# Altium schematic symbol library 接插件.SchLib: 71 symbols
Pins are listed as number, name and electrical type; pins without a type are passive.

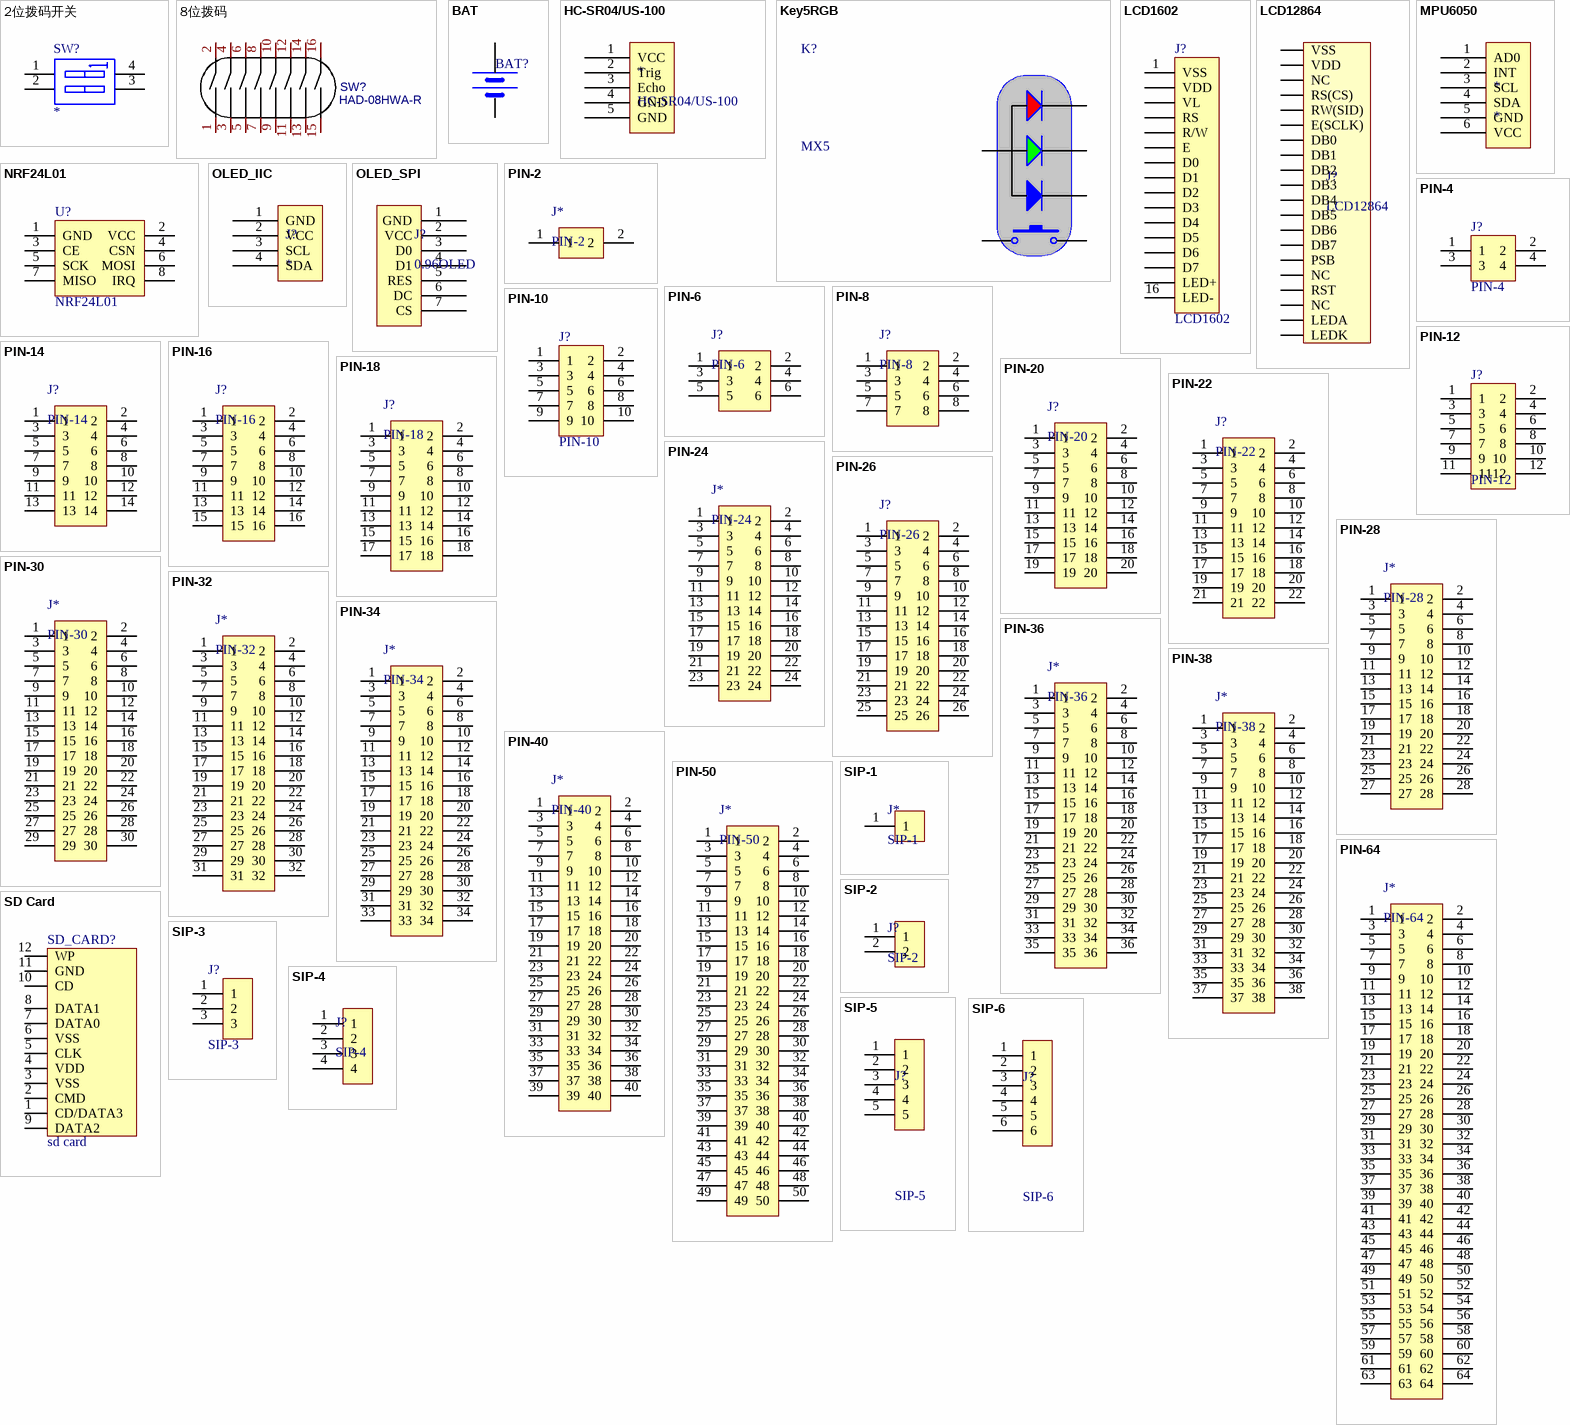
[diagram p0: symbols 2位拨码开关 to SIP-6]

## 2位拨码开关
designator SW?
DIP Switch
pins: 1 A1, 2 A2, 3 B2, 4 B1

## 8位拨码
designator SW?, comment HAD-08HWA-R
BOM_Manufacturer: ReliaPro; BOM_Supplier: LCSC; BOM_Manufacturer Part: HAD-08HWA-R; image: //image.lceda.cn/szlcsc/C4682.jpg; BOM_Supplier Part: C4682; spicePre: D; spiceSymbolName: HAD-08HWA-R
footprint 拨码MCEMR-08-T (DIP SWITCH)
pins: 1, 2 16, 3 2, 4 15, 5 3, 6 14, 7 4, 8 13, 9 5, 10 12, 11 6, 12 11, 13 7, 14 10, 15 8, 16 9

## BAT
designator BAT?, comment BATT  (value not drawn)
footprint BATM CR1220
pins: 1 VCC, 2 GND

## HC-SR04/US-100
designator *
超声波测距模块
footprint 2.54排针1X5
pins: 1 VCC, 2 Trig, 3 Echo, 4 GND, 5 GND

## Key5RGB
designator K?, comment MX5
footprint Key5RGB
pins: 0 A, 1 K, 2 K, 3 K, 4 1, 5 2

## LCD1602
designator J?
Header, 16-Pin; LatestRevisionDate: 17-Jul-2002; LatestRevisionNote: Re-released for DXP Platform.; Publisher: Altium Limited
footprint LCD1602
pins: 1 VSS, 2 VDD, 3 VL, 4 RS, 5 R/W, 6 E, 7 D0, 8 D1, 9 D2, 10 D3, 11 D4, 12 D5, 13 D6, 14 D7, 15 LED+, 16 LED-

## LCD12864
designator J?
液晶显示模块
footprint LCD12864 (2.54mm)
pins: 1 VSS, 2 VDD, 3 NC, 4 RS(CS), 5 RW(SID), 6 E(SCLK), 7 DB0, 8 DB1, 9 DB2, 10 DB3, 11 DB4, 12 DB5, 13 DB6, 14 DB7, 15 PSB, 16 NC, 17 RST, 18 NC, 19 LEDA, 20 LEDK

## MPU6050
designator *
footprint 2.54排针1X6
pins: 1 AD0, 2 INT, 3 SCL, 4 SDA, 5 GND, 6 VCC

## NRF24L01
designator U?
NRF24L01模块排母
footprint 2.54排针2X4
pins: 1 GND, 2 VCC, 3 CE, 4 CSN, 5 SCK, 6 MOSI, 7 MISO, 8 IRQ

## OLED_IIC
designator J?
footprint OLED 0.96 - IIC
footprint OLED 0.96 - IIC_无定位孔
pins: 1 GND, 2 VCC, 3 SCL, 4 SDA

## OLED_SPI
designator J?, comment 0.96OLED
footprint OLED 0.96-SPI _无定位孔
pins: 1 GND, 2 VCC, 3 D0, 4 D1, 5 RES, 6 DC, 7 CS

## PIN-2
designator J*
footprint 2.54弯排针2X1
footprint 4.2接插件2P
footprint 2.54排针1X2
pins: 1, 2

## PIN-4
designator J?
footprint 2.54母排座双排4P
footprint 4.2接插件4P
footprint 2.54排针2X2
footprint 2.54弯排针2X2
pins: 1, 2, 3, 4

## PIN-6
designator J?
footprint 2.54简易牛角座6P
footprint 2.54母排座双排6P
footprint 2.54排针2X3
footprint 2.54弯排针2X3
footprint 4.2接插件6P
footprint 2.54简易牛角座6P
pins: 1, 2, 3, 4, 5, 6

## PIN-8
designator J?
footprint 2.54简易牛角座8P
footprint 2.54简易牛角座弯针8P
footprint 2.54母排座双排8P
footprint 2.54排针2X4
footprint 2.54弯排针2X4
footprint 4.2接插件8P
pins: 1, 2, 3, 4, 5, 6, 7, 8

## PIN-10
designator J?
footprint 2.54简易牛角座10P
footprint 2.54简易牛角座弯针10P
footprint 2.54母排座双排10P
footprint 2.54弯排针2X5
footprint 4.2接插件10P
footprint 2.54排针2X5
pins: 1, 2, 3, 4, 5, 6, 7, 8, 9, 10

## PIN-12
designator J?
footprint 2.54简易牛角座弯针12P
footprint 2.54母排座双排12P
footprint 2.54排针2X6
footprint 2.54弯排针2X6
footprint 4.2接插件12P
pins: 1, 2, 3, 4, 5, 6, 7, 8, 9, 10, 11, 12

## PIN-14
designator J?
footprint 2.54简易牛角座14P
footprint 2.54简易牛角座弯针14P
footprint 4.2接插件14P
footprint 2.54母排座双排14P
footprint 2.54排针2X8
footprint 2.54弯排针2X8
pins: 1, 2, 3, 4, 5, 6, 7, 8, 9, 10, 11, 12, 13, 14

## PIN-16
designator J?
footprint 2.54排针2X8
footprint 2.54弯排针2X8
footprint 2.54简易牛角座16p
footprint 2.54简易牛角座弯针16P
footprint 2.54母排座双排16P
footprint 4.2接插件16P
pins: 1, 2, 3, 4, 5, 6, 7, 8, 9, 10, 11, 12, 13, 14, 15, 16

## PIN-18
designator J?
footprint 2.54排针2X9
footprint 2.54弯排针2X9
footprint 2.54母排座双排18P
footprint 4.2接插件18P
pins: 1, 2, 3, 4, 5, 6, 7, 8, 9, 10, 11, 12, 13, 14, 15, 16, 17, 18

## PIN-20
designator J?
footprint 2.54排针2X10
footprint 2.54弯排针2X10
footprint 2.54简易牛角座20p
footprint 2.54简易牛角座弯针20P
footprint 2.54母排座双排20P
footprint 4.2接插件20P
pins: 1, 2, 3, 4, 5, 6, 7, 8, 9, 10, 11, 12, 13, 14, 15, 16, 17, 18, 19, 20

## PIN-22
designator J?
footprint 2.54排针2X11
footprint 2.54弯排针2X11
footprint 2.54母排座双排22P
pins: 1, 2, 3, 4, 5, 6, 7, 8, 9, 10, 11, 12, 13, 14, 15, 16, 17, 18, 19, 20, 21, 22

## PIN-24
designator J*
footprint 2.54排针2X12
footprint 2.54弯排针2X12
footprint 2.54简易牛角座24p
footprint 2.54简易牛角座弯针24P
footprint 2.54母排座双排24P
pins: 1, 2, 3, 4, 5, 6, 7, 8, 9, 10, 11, 12, 13, 14, 15, 16, 17, 18, 19, 20, 21, 22, 23, 24

## PIN-26
designator J?
footprint 2.54简易牛角座26p
footprint 2.54简易牛角座弯针26P
footprint 2.54母排座双排26P
footprint 2.54排针2X13
footprint 2.54弯排针2X13
pins: 1, 2, 3, 4, 5, 6, 7, 8, 9, 10, 11, 12, 13, 14, 15, 16, 17, 18, 19, 20, 21, 22, 23, 24, 25, 26

## PIN-28
designator J*
footprint 2.54排针2X14
footprint 2.54弯排针2X14
footprint 2.54母排座双排28P
pins: 1, 2, 3, 4, 5, 6, 7, 8, 9, 10, 11, 12, 13, 14, 15, 16, 17, 18, 19, 20, 21, 22, 23, 24, 25, 26, 27, 28

## PIN-30
designator J*
footprint 2.54弯排针2X15
footprint 2.54简易牛角座30p
footprint 2.54简易牛角座弯针30P
footprint 2.54母排座双排30P
pins: 1, 2, 3, 4, 5, 6, 7, 8, 9, 10, 11, 12, 13, 14, 15, 16, 17, 18, 19, 20, 21, 22, 23, 24, 25, 26, 27, 28, 29, 30

## PIN-32
designator J*
pins: 1, 2, 3, 4, 5, 6, 7, 8, 9, 10, 11, 12, 13, 14, 15, 16, 17, 18, 19, 20, 21, 22, 23, 24, 25, 26, 27, 28, 29, 30, 31, 32

## PIN-34
designator J*
footprint 2.54弯排针2X17
footprint 2.54简易牛角座34p
footprint 2.54简易牛角座弯针34P
footprint 2.54母排座双排34P
pins: 1, 2, 3, 4, 5, 6, 7, 8, 9, 10, 11, 12, 13, 14, 15, 16, 17, 18, 19, 20, 21, 22, 23, 24, 25, 26, 27, 28, 29, 30, 31, 32, 33, 34

## PIN-36
designator J*
footprint 2.54母排座双排36P
footprint 2.54弯排针2X18
pins: 1, 2, 3, 4, 5, 6, 7, 8, 9, 10, 11, 12, 13, 14, 15, 16, 17, 18, 19, 20, 21, 22, 23, 24, 25, 26, 27, 28, 29, 30, 31, 32, 33, 34, 35, 36

## PIN-38
designator J*
footprint 2.54弯排针2X19
footprint 2.54母排座双排38P
pins: 1, 2, 3, 4, 5, 6, 7, 8, 9, 10, 11, 12, 13, 14, 15, 16, 17, 18, 19, 20, 21, 22, 23, 24, 25, 26, 27, 28, 29, 30, 31, 32, 33, 34, 35, 36, 37, 38

## PIN-40
designator J*
footprint 2.54排针2X20
footprint 2.54弯排针2X20
footprint 2.54简易牛角座40p
footprint 2.54简易牛角座弯针40P
footprint 2.54母排座双排40P
pins: 1, 2, 3, 4, 5, 6, 7, 8, 9, 10, 11, 12, 13, 14, 15, 16, 17, 18, 19, 20, 21, 22, 23, 24, 25, 26, 27, 28, 29, 30, 31, 32, 33, 34, 35, 36, 37, 38, 39, 40

## PIN-50
designator J*
footprint 2.54简易牛角座50p
pins: 1, 2, 3, 4, 5, 6, 7, 8, 9, 10, 11, 12, 13, 14, 15, 16, 17, 18, 19, 20, 21, 22, 23, 24, 25, 26, 27, 28, 29, 30, 31, 32, 33, 34, 35, 36, 37, 38, 39, 40, 41, 42, 43, 44, 45, 46, 47, 48, 49, 50

## PIN-64
designator J*
footprint 2.54母排座双排64P
pins: 1, 2, 3, 4, 5, 6, 7, 8, 9, 10, 11, 12, 13, 14, 15, 16, 17, 18, 19, 20, 21, 22, 23, 24, 25, 26, 27, 28, 29, 30, 31, 32, 33, 34, 35, 36, 37, 38, 39, 40, 41, 42, 43, 44, 45, 46, 47, 48, 49, 50, 51, 52, 53, 54, 55, 56, 57, 58, 59, 60, 61, 62, 63, 64

## SD Card
designator SD_CARD?, comment sd card
SD卡
footprint SDCARD_S (SDCARD_SMALL)
footprint SDCARD_L
pins: 1 CD/DATA3, 2 CMD, 3 VSS, 4 VDD, 5 CLK, 6 VSS, 7 DATA0, 8 DATA1, 9 DATA2, 10 CD, 11 GND, 12 WP

## SIP-1
designator J*
footprint 2.54弯排针1X1
footprint 2.54排针1X1
footprint 2.54弯排针1X1-A
pins: 1

## SIP-2
designator J?
footprint 2.54接插件2P
footprint 2.54排针1X2
footprint 5.08接线端子2位
footprint 5.08接线端子2P
footprint 5.08接插件2P
footprint 2.54对插件2P
footprint 2.54弯排针1X2-A
footprint 2.54XH接插件2P
pins: 1, 2

## SIP-3
designator J?
footprint 5.08接线端子3位
footprint 5.08接线端子3P
footprint 2.54接插件3P
footprint 2.54接插件3P
footprint 2.54排针1X3
footprint 2.54弯排针1X3-A
footprint 2.54弯排针1X3
footprint 2.54对插件3P
footprint 2.54XH接插件3P
footprint XH2.54-3SMD (CONN-SMD_3P-P2.54_XH2.54-3AB)
pins: 1, 2, 3

## SIP-4
designator J?
footprint 5.08接线端子4P
footprint 5.08接插件4P
footprint 2.54接插件4P
footprint 2.54排针1X4
footprint 2.54弯排针1X4-A
footprint 2.54弯排针1X4
footprint 2.54对插件4P
footprint 2.54XH接插件4P
footprint XH2.54-4AB
footprint XH2.54-4AB
pins: 1, 2, 3, 4

## SIP-5
designator J?
footprint 5.08接线端子5位
footprint 5.08接插件5P
footprint 2.54接插件5P
footprint 2.54排针1X5
footprint 2.54弯排针1X5-A
footprint 2.54弯排针1X5
footprint 2.54对插件5P
footprint 2.54XH接插件5P
pins: 1, 2, 3, 4, 5

## SIP-6
designator J?
footprint 5.08接线端子6位
footprint 5.08接插件6P
footprint 2.54接插件6P
footprint 2.54排针1X6
footprint 2.54弯排针1X6-A
footprint 2.54弯排针1X6
footprint 2.54对插件6P
footprint 2.54XH接插件6P
pins: 1, 2, 3, 4, 5, 6

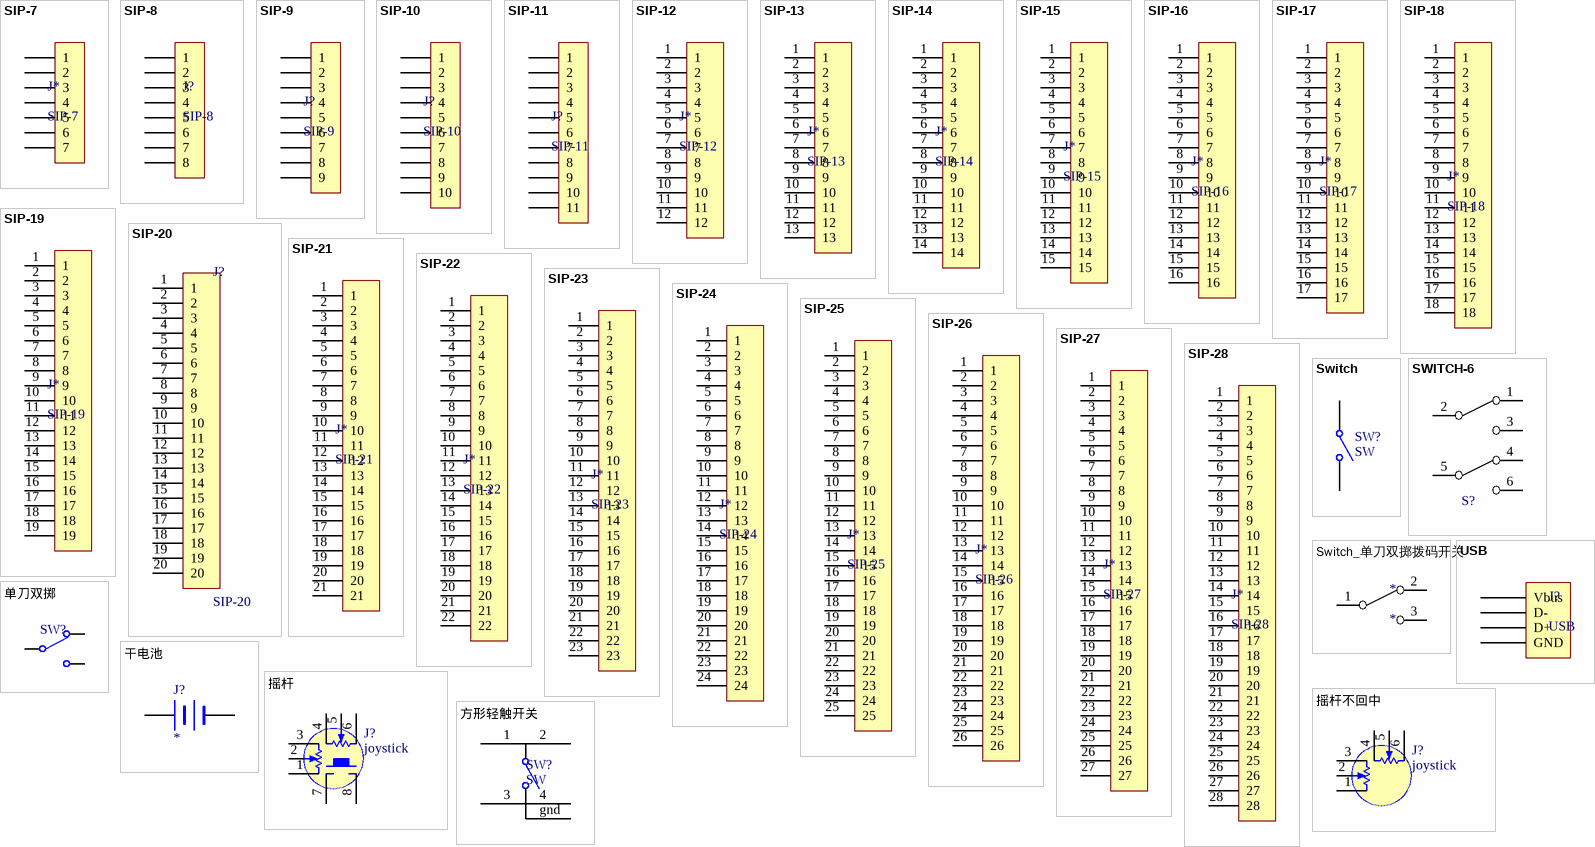
[diagram p1: symbols SIP-7 to 方形轻触开关]

## SIP-7
designator J*
footprint 5.08接线端子7位
footprint 2.54接插件7P
footprint 2.54排针1X7
footprint 2.54弯排针1X7-A
footprint 2.54弯排针1X7
footprint 2.54XH接插件7P
pins: 1, 2, 3, 4, 5, 6, 7

## SIP-8
designator J?
footprint 5.08接线端子8位
footprint 5.08接插件8P
footprint 2.54接插件8P
footprint 2.54排针1X8
footprint 2.54弯排针1X8-A
footprint 2.54弯排针1X8
footprint 2.54对插件8P
footprint 2.54XH接插件8P
pins: 1, 2, 3, 4, 5, 6, 7, 8

## SIP-9
designator J?
footprint 2.54XH接插件9P
footprint 2.54弯排针1X9
footprint 2.54弯排针1X9-A
footprint 2.54排针1X9
footprint 5.08接线端子9位
footprint 2.54XH接插件9P-A (接插件/1A)
pins: 1, 2, 3, 4, 5, 6, 7, 8, 9

## SIP-10
designator J?
footprint SIP10-0.2
footprint 2.54XH接插件10P
footprint 2.54弯排针1X10
footprint 2.54弯排针1X10-A
footprint 2.54排针1X10
footprint 5.08接插件10P
footprint 5.08接线端子10位
pins: 1, 2, 3, 4, 5, 6, 7, 8, 9, 10

## SIP-11
designator J?
footprint 2.54XH接插件11P
footprint 2.54弯排针1X11
footprint 2.54弯排针1X11-A
footprint 2.54排针1X11
pins: 1, 2, 3, 4, 5, 6, 7, 8, 9, 10, 11

## SIP-12
designator J*
footprint 2.54XH接插件12P
footprint 2.54弯排针1X12
footprint 2.54弯排针1X12-A
footprint 2.54排针1X12
pins: 1, 2, 3, 4, 5, 6, 7, 8, 9, 10, 11, 12

## SIP-13
designator J*
footprint 2.54XH接插件13P
footprint 2.54弯排针1X13
footprint 2.54弯排针1X13-A
footprint 2.54排针1X13
pins: 1, 2, 3, 4, 5, 6, 7, 8, 9, 10, 11, 12, 13

## SIP-14
designator J*
footprint 2.54XH接插件14P
footprint 2.54弯排针1X14
footprint 2.54弯排针1X14-A
footprint 2.54排针1X14
pins: 1, 2, 3, 4, 5, 6, 7, 8, 9, 10, 11, 12, 13, 14

## SIP-15
designator J*
footprint 2.54XH接插件15P
footprint 2.54弯排针1X15
footprint 2.54弯排针1X15-A
footprint 2.54排针1X15
pins: 1, 2, 3, 4, 5, 6, 7, 8, 9, 10, 11, 12, 13, 14, 15

## SIP-16
designator J*
footprint 2.54XH接插件16P
footprint 2.54弯排针1X16
footprint 2.54弯排针1X16-A
footprint 2.54排针1X16
pins: 1, 2, 3, 4, 5, 6, 7, 8, 9, 10, 11, 12, 13, 14, 15, 16

## SIP-17
designator J*
footprint 2.54XH接插件17P
footprint 2.54弯排针1X17
footprint 2.54弯排针1X17-A
footprint 2.54排针1X17
pins: 1, 2, 3, 4, 5, 6, 7, 8, 9, 10, 11, 12, 13, 14, 15, 16, 17

## SIP-18
designator J*
footprint 2.54XH接插件18P
footprint 2.54弯排针1X18
footprint 2.54弯排针1X18-A
footprint 2.54排针1X18
pins: 1, 2, 3, 4, 5, 6, 7, 8, 9, 10, 11, 12, 13, 14, 15, 16, 17, 18

## SIP-19
designator J*
footprint 2.54XH接插件19P
footprint 2.54弯排针1X19
footprint 2.54弯排针1X19-A
footprint 2.54排针1X19
pins: 1, 2, 3, 4, 5, 6, 7, 8, 9, 10, 11, 12, 13, 14, 15, 16, 17, 18, 19

## SIP-20
designator J?
footprint 2.54XH接插件20P
footprint 2.54弯排针1X20
footprint 2.54弯排针1X20-A
footprint 2.54排针1X20
pins: 1, 2, 3, 4, 5, 6, 7, 8, 9, 10, 11, 12, 13, 14, 15, 16, 17, 18, 19, 20

## SIP-21
designator J*
footprint 2.54弯排针1X21
footprint 2.54弯排针1X21-A
pins: 1, 2, 3, 4, 5, 6, 7, 8, 9, 10, 11, 12, 13, 14, 15, 16, 17, 18, 19, 20, 21

## SIP-22
designator J*
footprint 2.54弯排针1X22
footprint 2.54弯排针1X22-A
pins: 1, 2, 3, 4, 5, 6, 7, 8, 9, 10, 11, 12, 13, 14, 15, 16, 17, 18, 19, 20, 21, 22

## SIP-23
designator J*
footprint 2.54弯排针1X23
footprint 2.54弯排针1X23-A
pins: 1, 2, 3, 4, 5, 6, 7, 8, 9, 10, 11, 12, 13, 14, 15, 16, 17, 18, 19, 20, 21, 22, 23

## SIP-24
designator J*
footprint 2.54弯排针1X24
footprint 2.54弯排针1X24-A
pins: 1, 2, 3, 4, 5, 6, 7, 8, 9, 10, 11, 12, 13, 14, 15, 16, 17, 18, 19, 20, 21, 22, 23, 24

## SIP-25
designator J*
footprint 2.54弯排针1X25
footprint 2.54弯排针1X25-A
pins: 1, 2, 3, 4, 5, 6, 7, 8, 9, 10, 11, 12, 13, 14, 15, 16, 17, 18, 19, 20, 21, 22, 23, 24, 25

## SIP-26
designator J*
footprint 2.54弯排针1X26
footprint 2.54弯排针1X26-A
footprint 2.54排针1X26
pins: 1, 2, 3, 4, 5, 6, 7, 8, 9, 10, 11, 12, 13, 14, 15, 16, 17, 18, 19, 20, 21, 22, 23, 24, 25, 26

## SIP-27
designator J*
footprint 2.54弯排针1X27
footprint 2.54弯排针1X27-A
pins: 1, 2, 3, 4, 5, 6, 7, 8, 9, 10, 11, 12, 13, 14, 15, 16, 17, 18, 19, 20, 21, 22, 23, 24, 25, 26, 27

## SIP-28
designator J*
footprint 2.54排针1X28
pins: 1, 2, 3, 4, 5, 6, 7, 8, 9, 10, 11, 12, 13, 14, 15, 16, 17, 18, 19, 20, 21, 22, 23, 24, 25, 26, 27, 28

## Switch
designator SW?, comment SW
Single-Pole, Single-Throw Switch
footprint 侧按钮
footprint 按键微动开关3*6
footprint 按键微动开关3*4
pins: 1 COMMON, 2 NO

## SWITCH-6
designator S?  (value not drawn)
自锁开关
footprint SW-AJ
footprint 自锁开关5.8*5.8 (PB12E06371， GANGYUAN(港源))
pins: 1, 2, 3, 4, 5, 6

## Switch_单刀双掷拨码开关
designator *
footprint K3-1235S-K1
footprint 拨动开关SS-12D10L3
pins: 1, 2, 3

## USB
designator J?
footprint Mini_USB
footprint MICRO-USB-5P4脚
footprint MICRO-USB-5P4脚无定位孔
footprint MICRO-USB-沉板式
pins: 1 Vbus, 2 D-, 3 D+, 5 GND

## 单刀双掷
designator SW?, comment K3-1235S-K1  (value not drawn)
Switch
footprint K3-1235S-K1
footprint SW-TH_3PIN_SK12D07VG4
pins: 1, 2, 3

## 干电池
designator J?
Battery
footprint BAT
footprint 18650 (单节电池座)
footprint T接头
pins: 1 +, 2 -

## 摇杆
designator J?, comment joystick
摇杆
footprint 摇杆带确认
footprint 摇杆不回中
pins: 1, 2, 3, 4, 5, 6, 7 J2, 8 J1

## 摇杆不回中
designator J?, comment joystick
摇杆
footprint 摇杆带确认
footprint 摇杆不回中
pins: 1, 2, 3, 4, 5, 6

## 方形轻触开关
designator SW?, comment SW
footprint 轻触开关6.2*6.2(5p) SMD
pins: 1, 2, 3, 4, gnd 5